# EAGLE library part MMA7660 (library pyboard)
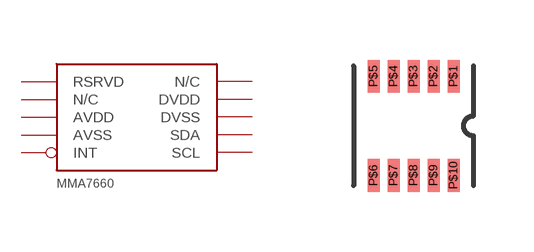
[diagram p0: symbol with the pads of DFN10; footprint DFN10]

Designator prefix -

## MMA7660  [DFN10]
P$1  RSRVD  in
P$2  N/C  in
P$3  AVDD  pwr
P$4  AVSS  pwr
P$5  INT  out
P$6  SCL  in
P$7  SDA  out
P$8  DVSS  pwr
P$9  DVDD  pwr
P$10  N/C  in

## Footprint DFN10 (pad centres in mm)
smd 0.3 x 0.825: P$1 1,1.24; P$2 0.5,1.24; P$3 0,1.24; P$4 -0.5,1.24; P$5 -1,1.24; P$6 -1,-1.24; P$7 -0.5,-1.24; P$8 0,-1.24; P$9 0.5,-1.24; P$10 1,-1.24